# EAGLE library part BACKPLANE_POWER_MODULE (library signpost)
Signpost power module recepticle
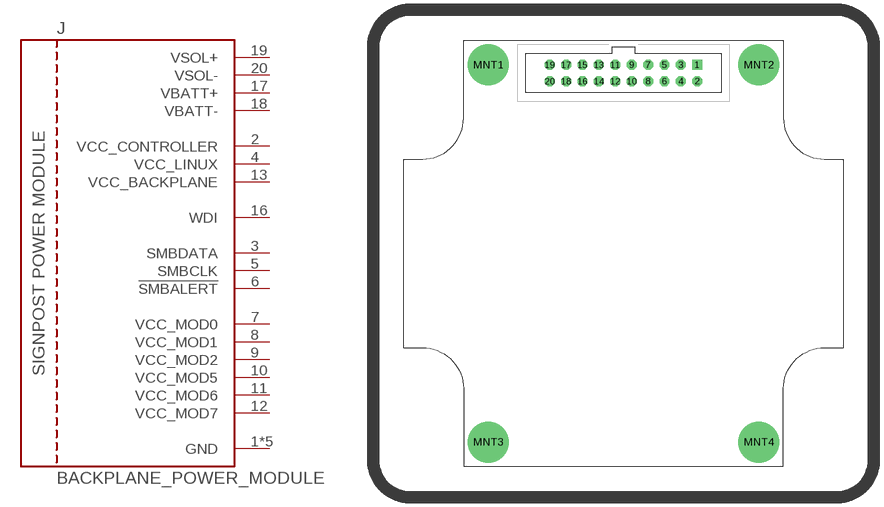
[diagram p2: symbol with the pads of BACKPLANE_MODULE_20PIN; footprint BACKPLANE_MODULE_20PIN]

Designator prefix J

## BACKPLANE_POWER_MODULE (DIGIKEY: S9197-ND)  [BACKPLANE_MODULE_20PIN]
1  GND  pwr
2  VCC_CONTROLLER  pwr
3  SMBDATA  oc
4  VCC_LINUX  pwr
5  SMBCLK  oc
6  !SMBALERT
7  VCC_MOD0  pwr
8  VCC_MOD1  pwr
9  VCC_MOD2  pwr
10  VCC_MOD5  pwr
11  VCC_MOD6  pwr
12  VCC_MOD7  pwr
13  VCC_BACKPLANE  pwr
16  WDI  pwr
17  VBATT+  pwr
18  VBATT-  pwr
19  VSOL+  pwr
20  VSOL-  pwr
MNT1  GND  pwr
MNT2  GND  pwr
MNT3  GND  pwr
MNT4  GND  pwr

## Footprint BACKPLANE_MODULE_20PIN (pad centres in mm)
drill 1.016 square: 1 11.43,29.21
drill 1.016 octagon: 2 11.43,26.67; 3 8.89,29.21; 4 8.89,26.67; 5 6.35,29.21; 6 6.35,26.67; 7 3.81,29.21; 8 3.81,26.67; 9 1.27,29.21; 10 1.27,26.67; 11 -1.27,29.21; 12 -1.27,26.67; 13 -3.81,29.21; 14 -3.81,26.67; 15 -6.35,29.21; 16 -6.35,26.67; 17 -8.89,29.21; 18 -8.89,26.67; 19 -11.43,29.21; 20 -11.43,26.67
drill 2.946 pad 6.35: MNT1 -20.955,29.21; MNT2 20.955,29.21; MNT3 -20.955,-29.21; MNT4 20.955,-29.21